# Altium schematic symbol library XG8V-0331_3pin_header.SchLib: 1 symbol
Pins are listed as number, name and electrical type; pins without a type are passive.

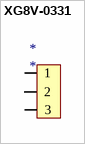
[diagram p0: symbol XG8V-0331]

## XG8V-0331
designator *
pins: 1, 2, 3